# Altium schematic symbol library Skayboard.SchLib: 1 symbol
Pins are listed as number, name and electrical type; pins without a type are passive.

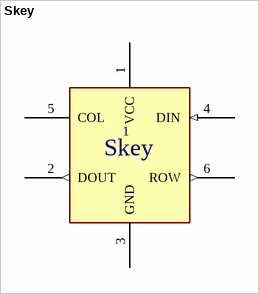
[diagram p0: symbol Skey]

## Skey
designator 1
Skaytacium's keyboard's key's symbol
footprint Skey (Skey's footprint)
pins: 1 VCC, 2 DOUT (out), 3 GND, 4 DIN (in), 5 COL, 6 ROW (out)